# EAGLE library part EFM8SB10F8G-A-QFN24 (library MF_IC_Digital)
Manufacturer Part #: EFM8SB10F8G-A-QFN24 Manufacturer: Silicon Labs Description: Sleepy Bee 8-bit Microcontrollers - MCU 8kB/512B RAM, 10ch 12b ADC Low Pwr
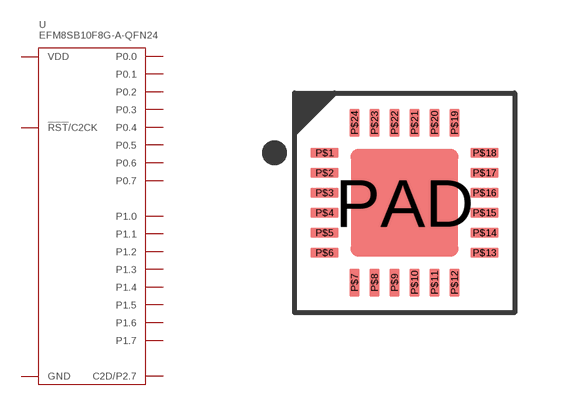
[diagram p16: symbol with the pads of EFM8SB10F8G-A-QFN24; footprint EFM8SB10F8G-A-QFN24]

Designator prefix U

## EFM8SB10F8G-A-QFN24 (HOUSEPART: NO; POPULATE: 1; URL: http://www.silabs.com/products/mcu/8-bit/efm8-sleepy-bee/pages/efm8-sleepy-bee.aspx)  [EFM8SB10F8G-A-QFN24]
P$2  GND
P$3  VDD
P$6  !RST!/C2CK
P$7  C2D/P2.7
P$8  P1.7
P$9  P1.6
P$11  P1.5
P$12  P1.4
P$13  P1.3
P$14  P1.2
P$15  P1.1
P$16  P1.0
P$17  P0.7
P$18  P0.6
P$19  P0.5
P$20  P0.4
P$21  P0.3
P$22  P0.2
P$23  P0.1
P$24  P0.0
PAD  GND

## Footprint EFM8SB10F8G-A-QFN24 (pad centres in mm)
Description: Silicon Labs Sleepy Bee QFN24 Package.
smd 0.7 x 0.25: P$1 -2,1.25; P$2 -2,0.75; P$3 -2,0.25; P$4 -2,-0.25; P$5 -2,-0.75; P$6 -2,-1.25; P$13 2,-1.25; P$14 2,-0.75; P$15 2,-0.25; P$16 2,0.25; P$17 2,0.75; P$18 2,1.25
smd 0.25 x 0.7: P$7 -1.25,-2; P$8 -0.75,-2; P$9 -0.25,-2; P$10 0.25,-2; P$11 0.75,-2; P$12 1.25,-2; P$19 1.25,2; P$20 0.75,2; P$21 0.25,2; P$22 -0.25,2; P$23 -0.75,2; P$24 -1.25,2
smd 2.7 x 2.7: PAD 0,0